# Altium schematic symbol library BQ25170JDSGR.SchLib: 1 symbol
Pins are listed as number, name and electrical type; pins without a type are passive.

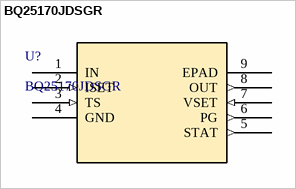
[diagram p0: symbol BQ25170JDSGR]

## BQ25170JDSGR
designator U?
No Description Available; Mfr_Name: Texas Instruments; Copyright: Copyright (C) 2022 Ultra Librarian. All rights reserved.; Manufacturer_Part_Number: BQ25170JDSGR; RefDes: RefDes; Type: DEV
footprint WSON8_BQ2517_TEX
pins: 1 IN (power), 2 ISET (in), 3 TS (in), 4 GND, 5 STAT (out), 6 PG (out), 7 VSET (in), 8 OUT (out), 9 EPAD